# EAGLE library part GH1.25-10P (library JST-GH1.25)
JST GH 1.25mm PITCH SMD HEADER
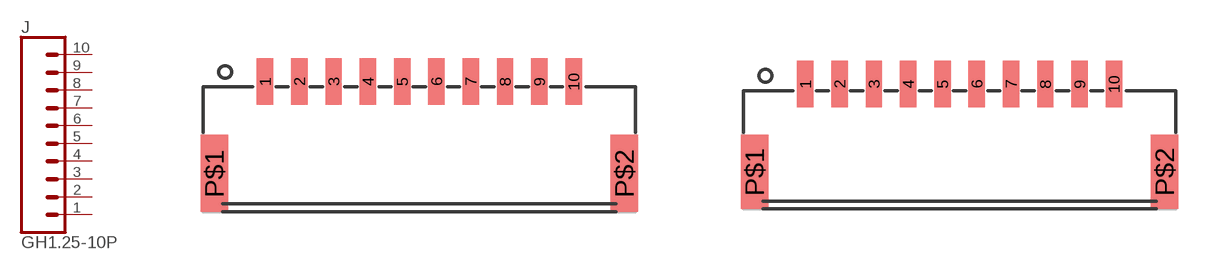
[diagram p4: symbol with the pads of BM10B-GHS-TBT; footprints BM10B-GHS-TBT, SM10B-GHS-TB]

Designator prefix J

## GH1.25-10P-BM10B-GHS-TBT  [BM10B-GHS-TBT]
1  1  pas
2  2  pas
3  3  pas
4  4  pas
5  5  pas
6  6  pas
7  7  pas
8  8  pas
9  9  pas
10  10  pas

## GH1.25-10P-SM10B-GHS-TB  [SM10B-GHS-TB]
Pads as for BM10B-GHS-TBT

## Footprint BM10B-GHS-TBT (pad centres in mm)
TOP ENTRY JST GH 1.25mm SMD HEADER
smd 0.6 x 1.7: 1 -5.625,4.75; 2 -4.375,4.75; 3 -3.125,4.75; 4 -1.875,4.75; 5 -0.625,4.75; 6 0.625,4.75; 7 1.875,4.75; 8 3.125,4.75; 9 4.375,4.75; 10 5.625,4.75
smd 1 x 2.8: P$1 -7.475,1.4; P$2 7.475,1.4

## Footprint SM10B-GHS-TB (pad centres in mm)
SIDE ENTRY JST GH 1.25mm SMD HEADER
smd 0.6 x 1.7: 1 -5.625,4.55; 2 -4.375,4.55; 3 -3.125,4.55; 4 -1.875,4.55; 5 -0.625,4.55; 6 0.625,4.55; 7 1.875,4.55; 8 3.125,4.55; 9 4.375,4.55; 10 5.625,4.55
smd 1 x 2.7: P$1 -7.475,1.35; P$2 7.475,1.35